# Altium footprint library VNA.PCBLIB: 50 footprints (part 2 of 4)
Each footprint in its own frame and in the unit in brackets; x right, y up, seen from the top. Pads: shape width x height; smd on the part's side, far side on the other; paste and mask are expansions set on the pad; w line width, h text height; cw(c..) or ccw(c..) is an arc to the next point about the centre after c.
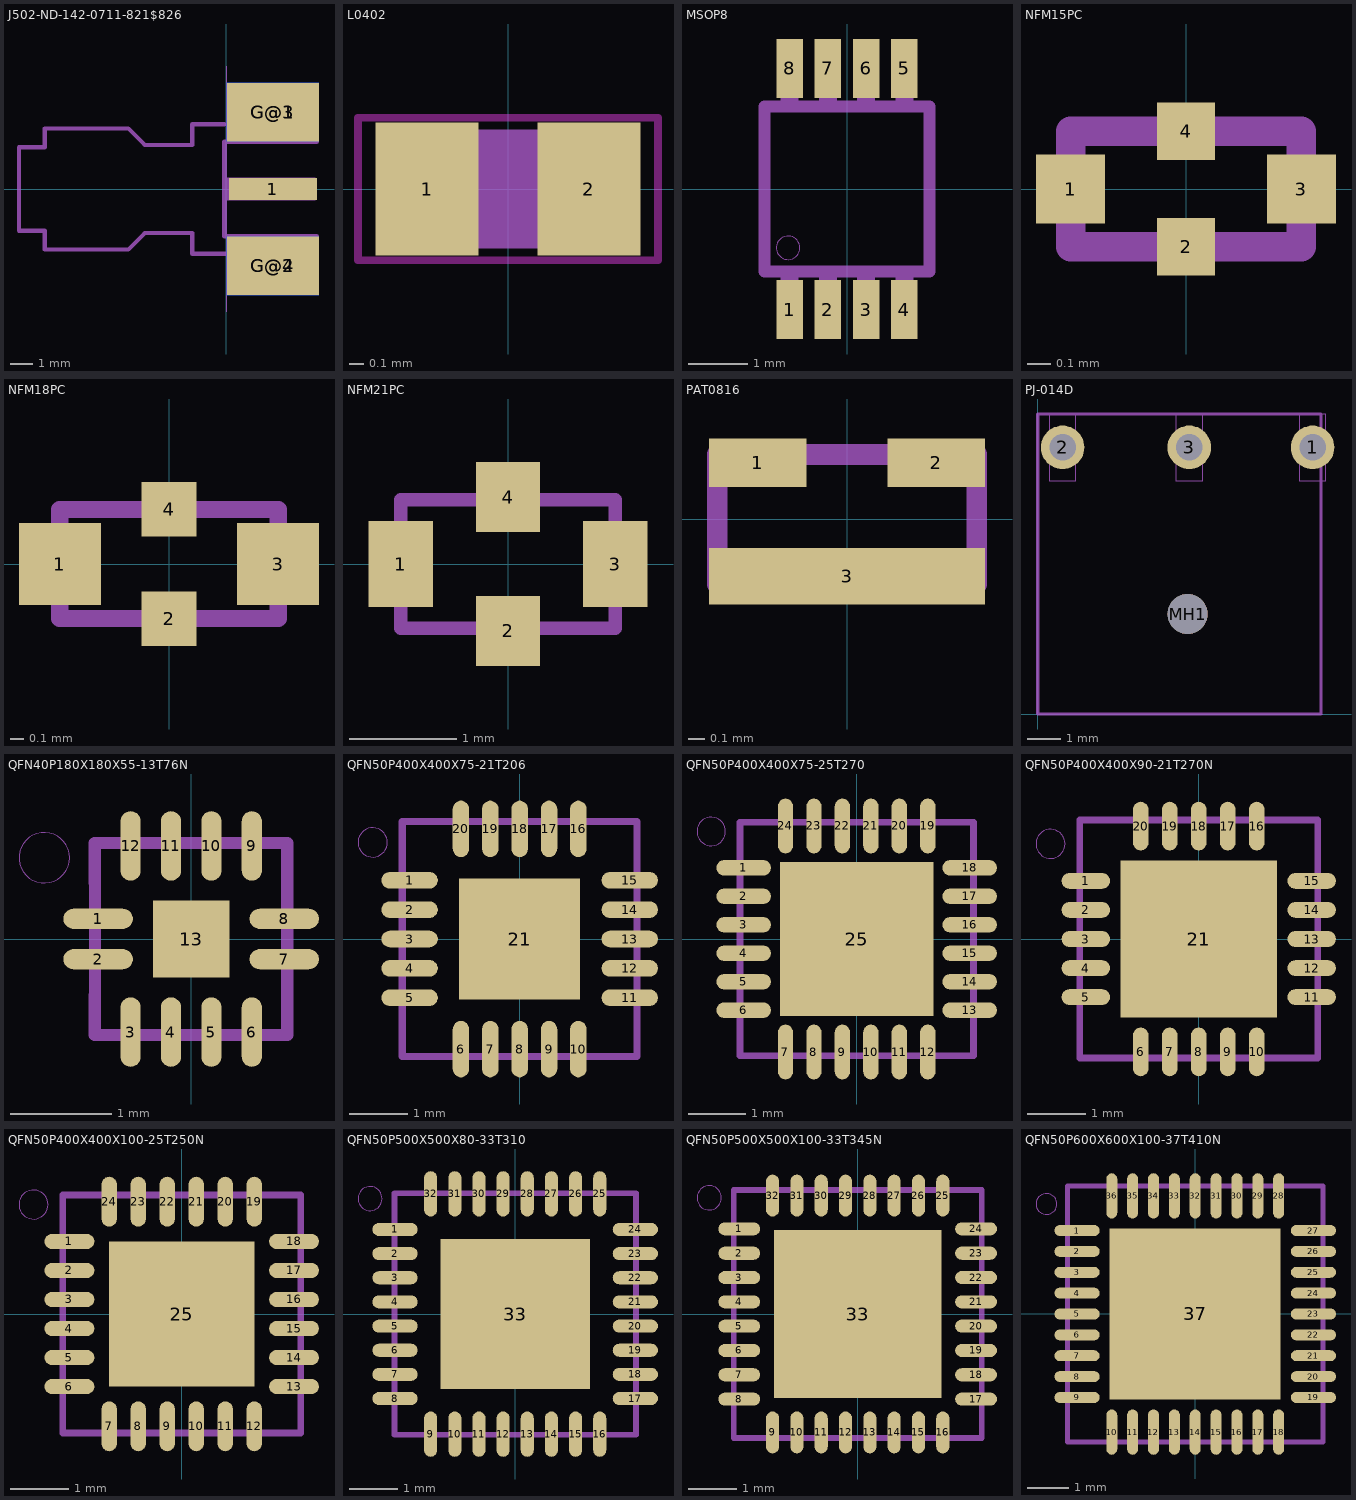
[diagram p1: the footprints below, top view; thin cyan lines are the x and y axes]

## J502-ND-142-0711-821$826 [mil]
pads (5):
  rect 157.48x39.37 smd: 1(83.28,0)
  rect 165x105 smd: G@1(83.28,137.58) G@2(83.28,-137.58)
  rect 165x105 smd far side: G@3(83.28,137.58) G@4(83.28,-137.58)
Dimension:
  lines w0: 0,-220 0,220
tDocu:
  region: -0.98,-19.69 -0.98,19.69 159.45,19.69 159.45,-19.69
  lines w8: -61.02,-116.14 161.42,-116.14 161.42,-84.65 -3.94,-84.65 ; -3.94,84.65 161.42,84.65 161.42,116.14
tPlace:
  lines w8: -3.94,-116.14 -61.02,-116.14 -61.02,-78.74 -145.67,-78.74 -175.2,-108.27 -324.8,-108.27 -324.8,-74.8 -371.06,-74.8 -371.06,74.8 -324.8,74.8 -324.8,108.27 -175.2,108.27 -145.67,78.74 -61.02,78.74 -61.02,116.14 -3.94,116.14 ; -3.94,-84.65 -3.94,84.65

## L0402 [mm]
pads (2):
  rect 0.7x0.9 smd: 1(-0.548,0) 2(0.548,0)
Top keep-out:
  lines w0.051: -1.016,-0.483 1.016,-0.483 1.016,0.483 -1.016,0.483 -1.016,-0.483
tDocu:
  region: -0.554,-0.305 -0.554,0.295 -0.254,0.295 -0.254,-0.305
  region: 0.259,-0.305 0.259,0.295 0.559,0.295 0.559,-0.305
  lines w0.152: -0.245,-0.224 0.245,-0.224 ; -0.245,0.224 0.245,0.224
tGlue:
  region: -0.2,-0.4 -0.2,0.4 0.2,0.4 0.2,-0.4

## MSOP8 [mm]
pads (8):
  rect 0.45x1 smd: 1(-0.975,-2.05) 2(-0.325,-2.05) 3(0.325,-2.05) 4(0.975,-2.05) 5(0.975,2.05) 6(0.325,2.05) 7(-0.325,2.05) 8(-0.975,2.05)
tDocu:
  region: -1.125,-2.45 -1.125,-1.5 -0.826,-1.5 -0.826,-2.45
  region: -0.475,-2.45 -0.475,-1.5 -0.175,-1.5 -0.175,-2.45
  region: 0.175,-2.45 0.175,-1.5 0.475,-1.5 0.475,-2.45
  region: 0.825,-2.45 0.825,-1.5 1.125,-1.5 1.125,-2.45
  region: 0.826,1.5 0.826,2.45 1.125,2.45 1.125,1.5
  region: 0.175,1.5 0.175,2.45 0.475,2.45 0.475,1.5
  region: -0.475,1.5 -0.475,2.45 -0.175,2.45 -0.175,1.5
  region: -1.125,1.5 -1.125,2.45 -0.825,2.45 -0.825,1.5
tPlace:
  circle w0: c-1,-1 r0.2
  lines w0.203: -1.4,-1.4 1.4,-1.4 1.4,1.4 -1.4,1.4 -1.4,-1.4

## NFM15PC [mm]
pads (4):
  rect 0.3x0.3 smd: 1(-0.5,0) 3(0.5,0)
  rect 0.25x0.25 smd: 2(0,-0.25) 4(0,0.25)
tDocu:
  lines w0.127: -0.5,-0.25 -0.5,0.25 0,0.25 0.5,0.25 0.5,-0.25 -0.5,-0.25

## NFM18PC [mil]
pads (4):
  rect 23.62x23.62 smd: 1(-31.5,0) 3(31.5,0)
  rect 15.75x15.75 smd: 2(0,-15.75) 4(0,15.75)
tDocu:
  lines w5: -31.5,-15.75 31.5,-15.75 31.5,15.75 -31.5,15.75 -31.5,-15.75

## NFM21PC [mm]
pads (4):
  rect 0.6x0.8 smd: 1(-1,0) 3(1,0)
  rect 0.6x0.65 smd: 2(0,-0.625) 4(0,0.625)
tDocu:
  lines w0.127: -1,-0.6 1,-0.6 1,0.6 -1,0.6 -1,-0.6

## PAT0816 [mm]
pads (3):
  rect 0.6x0.3 smd: 1(-0.55,0.35) 2(0.55,0.35)
  rect 1.7x0.35 smd: 3(0,-0.35)
tDocu:
  lines w0.127: -0.8,-0.4 0.8,-0.4 0.8,0.4 -0.8,0.4 -0.8,0 -0.8,-0.4

## PJ-014D [mil]
pads (4):
  round 51.5 hole 31.5: 1(324.8,314.96) 2(29.53,314.96) 3(179.13,314.96)
  round 47.24 hole 47.24 unplated: MH1(177.17,118.11)
Milling:
  lines w0: 13.78,275.59 13.78,354.33 29.53,354.33 45.28,354.33 45.28,275.59 13.78,275.59 ; 163.39,275.59 163.39,354.33 179.13,354.33 194.88,354.33 194.88,275.59 163.39,275.59 ; 309.06,275.59 309.06,354.33 324.8,354.33 340.55,354.33 340.55,275.59 309.06,275.59
tPlace:
  lines w3.94: 0,0 334.65,0 334.65,354.33 0,354.33 0,0

## QFN40P180X180X55-13T76N [mm]
pads (13):
  rrect100% 0.688x0.2 smd: 1(-0.92,0.2) 2(-0.92,-0.2) 7(0.92,-0.2) 8(0.92,0.2)
  rrect100% 0.2x0.688 smd: 3(-0.6,-0.92) 4(-0.2,-0.92) 5(0.2,-0.92) 6(0.6,-0.92) 9(0.6,0.92) 10(0.2,0.92) 11(-0.2,0.92) 12(-0.6,0.92)
  rect 0.76x0.76 smd: 13(0,0)
tDocu:
  lines w0.12: -0.95,-0.95 0.95,-0.95 0.95,0.95 -0.95,0.95 -0.95,-0.95
tPlace:
  circle w0: c-1.454,0.804 r0.25
  lines w0.12: -0.954,-0.95 -0.954,-0.554 ; -0.954,0.554 -0.954,0.95 ; 0.954,-0.95 0.954,-0.554 ; 0.954,0.554 0.954,0.95

## QFN50P400X400X75-21T206 [mm]
pads (21):
  rrect100% 0.962x0.282 smd: 1(-1.875,1) 2(-1.875,0.5) 3(-1.875,0) 4(-1.875,-0.5) 5(-1.875,-1) 11(1.875,-1) 12(1.875,-0.5) 13(1.875,0) 14(1.875,0.5) 15(1.875,1)
  rrect100% 0.282x0.962 smd: 6(-1,-1.875) 7(-0.5,-1.875) 8(0,-1.875) 9(0.5,-1.875) 10(1,-1.875) 16(1,1.875) 17(0.5,1.875) 18(0,1.875) 19(-0.5,1.875) 20(-1,1.875)
  rect 2.06x2.06 smd: 21(0,0)
tDocu:
  lines w0.12: -2,-2 2,-2 2,2 -2,2 -2,-2
tPlace:
  circle w0: c-2.504,1.645 r0.25
  lines w0.12: -2,-1.395 -2,-2 -1.395,-2 ; -2,1.395 -2,2 -1.395,2 ; 1.395,-2 2,-2 2,-1.395 ; 1.395,2 2,2 2,1.395

## QFN50P400X400X75-25T270 [mm]
pads (25):
  rrect100% 0.96x0.27 smd: 1(-1.985,1.25) 2(-1.985,0.75) 3(-1.985,0.25) 4(-1.985,-0.25) 5(-1.985,-0.75) 6(-1.985,-1.25) 13(1.985,-1.25) 14(1.985,-0.75) 15(1.985,-0.25) 16(1.985,0.25) 17(1.985,0.75) 18(1.985,1.25)
  rrect100% 0.27x0.96 smd: 7(-1.25,-1.985) 8(-0.75,-1.985) 9(-0.25,-1.985) 10(0.25,-1.985) 11(0.75,-1.985) 12(1.25,-1.985) 19(1.25,1.985) 20(0.75,1.985) 21(0.25,1.985) 22(-0.25,1.985) 23(-0.75,1.985) 24(-1.25,1.985)
  rect 2.7x2.7 smd: 25(0,0)
tDocu:
  lines w0.12: -2.05,-2.05 2.05,-2.05 2.05,2.05 -2.05,2.05 -2.05,-2.05
tPlace:
  circle w0: c-2.554,1.889 r0.25
  lines w0.12: -2.05,-1.639 -2.05,-2.05 -1.639,-2.05 ; -2.05,1.639 -2.05,2.05 -1.639,2.05 ; 1.639,-2.05 2.05,-2.05 2.05,-1.639 ; 1.639,2.05 2.05,2.05 2.05,1.639

## QFN50P400X400X90-21T270N [mm]
pads (21):
  rrect100% 0.838x0.27 smd: 1(-1.946,1) 2(-1.946,0.5) 3(-1.946,0) 4(-1.946,-0.5) 5(-1.946,-1) 11(1.946,-1) 12(1.946,-0.5) 13(1.946,0) 14(1.946,0.5) 15(1.946,1)
  rrect100% 0.27x0.838 smd: 6(-1,-1.946) 7(-0.5,-1.946) 8(0,-1.946) 9(0.5,-1.946) 10(1,-1.946) 16(1,1.946) 17(0.5,1.946) 18(0,1.946) 19(-0.5,1.946) 20(-1,1.946)
  rect 2.7x2.7 smd: 21(0,0)
tDocu:
  lines w0.12: -2.05,-2.05 2.05,-2.05 2.05,2.05 -2.05,2.05 -2.05,-2.05
tPlace:
  circle w0: c-2.554,1.639 r0.25
  lines w0.12: -2.05,-1.389 -2.05,-2.05 -1.389,-2.05 ; -2.05,1.389 -2.05,2.05 -1.389,2.05 ; 1.389,-2.05 2.05,-2.05 2.05,-1.389 ; 1.389,2.05 2.05,2.05 2.05,1.389

## QFN50P400X400X100-25T250N [mm]
pads (25):
  rrect100% 0.86x0.264 smd: 1(-1.935,1.25) 2(-1.935,0.75) 3(-1.935,0.25) 4(-1.935,-0.25) 5(-1.935,-0.75) 6(-1.935,-1.25) 13(1.935,-1.25) 14(1.935,-0.75) 15(1.935,-0.25) 16(1.935,0.25) 17(1.935,0.75) 18(1.935,1.25)
  rrect100% 0.264x0.86 smd: 7(-1.25,-1.935) 8(-0.75,-1.935) 9(-0.25,-1.935) 10(0.25,-1.935) 11(0.75,-1.935) 12(1.25,-1.935) 19(1.25,1.935) 20(0.75,1.935) 21(0.25,1.935) 22(-0.25,1.935) 23(-0.75,1.935) 24(-1.25,1.935)
  rect 2.5x2.5 smd: 25(0,0)
tDocu:
  lines w0.12: -2.05,-2.05 2.05,-2.05 2.05,2.05 -2.05,2.05 -2.05,-2.05
tPlace:
  circle w0: c-2.554,1.886 r0.25
  lines w0.12: -2.05,-1.636 -2.05,-2.05 -1.636,-2.05 ; -2.05,1.636 -2.05,2.05 -1.636,2.05 ; 1.636,-2.05 2.05,-2.05 2.05,-1.636 ; 1.636,2.05 2.05,2.05 2.05,1.636

## QFN50P500X500X80-33T310 [mm]
pads (33):
  rrect100% 0.937x0.27 smd: 1(-2.487,1.75) 2(-2.487,1.25) 3(-2.487,0.75) 4(-2.487,0.25) 5(-2.487,-0.25) 6(-2.487,-0.75) 7(-2.487,-1.25) 8(-2.487,-1.75) 17(2.487,-1.75) 18(2.487,-1.25) 19(2.487,-0.75) 20(2.487,-0.25) 21(2.487,0.25) 22(2.487,0.75) 23(2.487,1.25) 24(2.487,1.75)
  rrect100% 0.27x0.937 smd: 9(-1.75,-2.487) 10(-1.25,-2.487) 11(-0.75,-2.487) 12(-0.25,-2.487) 13(0.25,-2.487) 14(0.75,-2.487) 15(1.25,-2.487) 16(1.75,-2.487) 25(1.75,2.487) 26(1.25,2.487) 27(0.75,2.487) 28(0.25,2.487) 29(-0.25,2.487) 30(-0.75,2.487) 31(-1.25,2.487) 32(-1.75,2.487)
  rect 3.1x3.1 smd: 33(0,0)
tDocu:
  lines w0.12: -2.5,-2.5 2.5,-2.5 2.5,2.5 -2.5,2.5 -2.5,-2.5
tPlace:
  circle w0: c-3.004,2.389 r0.25
  lines w0.12: -2.5,-2.139 -2.5,-2.5 -2.139,-2.5 ; -2.5,2.139 -2.5,2.5 -2.139,2.5 ; 2.139,-2.5 2.5,-2.5 2.5,-2.139 ; 2.139,2.5 2.5,2.5 2.5,2.139

## QFN50P500X500X100-33T345N [mm]
pads (33):
  rrect100% 0.86x0.27 smd: 1(-2.435,1.75) 2(-2.435,1.25) 3(-2.435,0.75) 4(-2.435,0.25) 5(-2.435,-0.25) 6(-2.435,-0.75) 7(-2.435,-1.25) 8(-2.435,-1.75) 17(2.435,-1.75) 18(2.435,-1.25) 19(2.435,-0.75) 20(2.435,-0.25) 21(2.435,0.25) 22(2.435,0.75) 23(2.435,1.25) 24(2.435,1.75)
  rrect100% 0.27x0.86 smd: 9(-1.75,-2.435) 10(-1.25,-2.435) 11(-0.75,-2.435) 12(-0.25,-2.435) 13(0.25,-2.435) 14(0.75,-2.435) 15(1.25,-2.435) 16(1.75,-2.435) 25(1.75,2.435) 26(1.25,2.435) 27(0.75,2.435) 28(0.25,2.435) 29(-0.25,2.435) 30(-0.75,2.435) 31(-1.25,2.435) 32(-1.75,2.435)
  rect 3.45x3.45 smd: 33(0,0)
tDocu:
  lines w0.12: -2.55,-2.55 2.55,-2.55 2.55,2.55 -2.55,2.55 -2.55,-2.55
tPlace:
  circle w0: c-3.054,2.389 r0.25
  lines w0.12: -2.55,-2.139 -2.55,-2.55 -2.139,-2.55 ; -2.55,2.139 -2.55,2.55 -2.139,2.55 ; 2.139,-2.55 2.55,-2.55 2.55,-2.139 ; 2.139,2.55 2.55,2.55 2.55,2.139

## QFN50P600X600X100-37T410N [mm]
pads (37):
  rrect100% 1.084x0.264 smd: 1(-2.832,2) 2(-2.832,1.5) 3(-2.832,1) 4(-2.832,0.5) 5(-2.832,0) 6(-2.832,-0.5) 7(-2.832,-1) 8(-2.832,-1.5) 9(-2.832,-2) 19(2.832,-2) 20(2.832,-1.5) 21(2.832,-1) 22(2.832,-0.5) 23(2.832,0) 24(2.832,0.5) 25(2.832,1) 26(2.832,1.5) 27(2.832,2)
  rrect100% 0.264x1.084 smd: 10(-2,-2.832) 11(-1.5,-2.832) 12(-1,-2.832) 13(-0.5,-2.832) 14(0,-2.832) 15(0.5,-2.832) 16(1,-2.832) 17(1.5,-2.832) 18(2,-2.832) 28(2,2.832) 29(1.5,2.832) 30(1,2.832) 31(0.5,2.832) 32(0,2.832) 33(-0.5,2.832) 34(-1,2.832) 35(-1.5,2.832) 36(-2,2.832)
  rect 4.1x4.1 smd: 37(0,0)
tDocu:
  lines w0.12: -3.062,-3.062 3.062,-3.062 3.062,3.062 -3.062,3.062 -3.062,-3.062
tPlace:
  circle w0: c-3.566,2.636 r0.25
  lines w0.12: -3.062,-2.386 -3.062,-3.062 -2.386,-3.062 ; -3.062,2.386 -3.062,3.062 -2.386,3.062 ; 2.386,-3.062 3.062,-3.062 3.062,-2.386 ; 2.386,3.062 3.062,3.062 3.062,2.386